# Altium footprint library PLS_Connector.PcbLib: 20 footprints (part 1 of 2)
Each footprint in its own frame and in the unit in brackets; x right, y up, seen from the top. Pads: shape width x height; smd on the part's side, far side on the other; paste and mask are expansions set on the pad; w line width, h text height; cw(c..) or ccw(c..) is an arc to the next point about the centre after c.
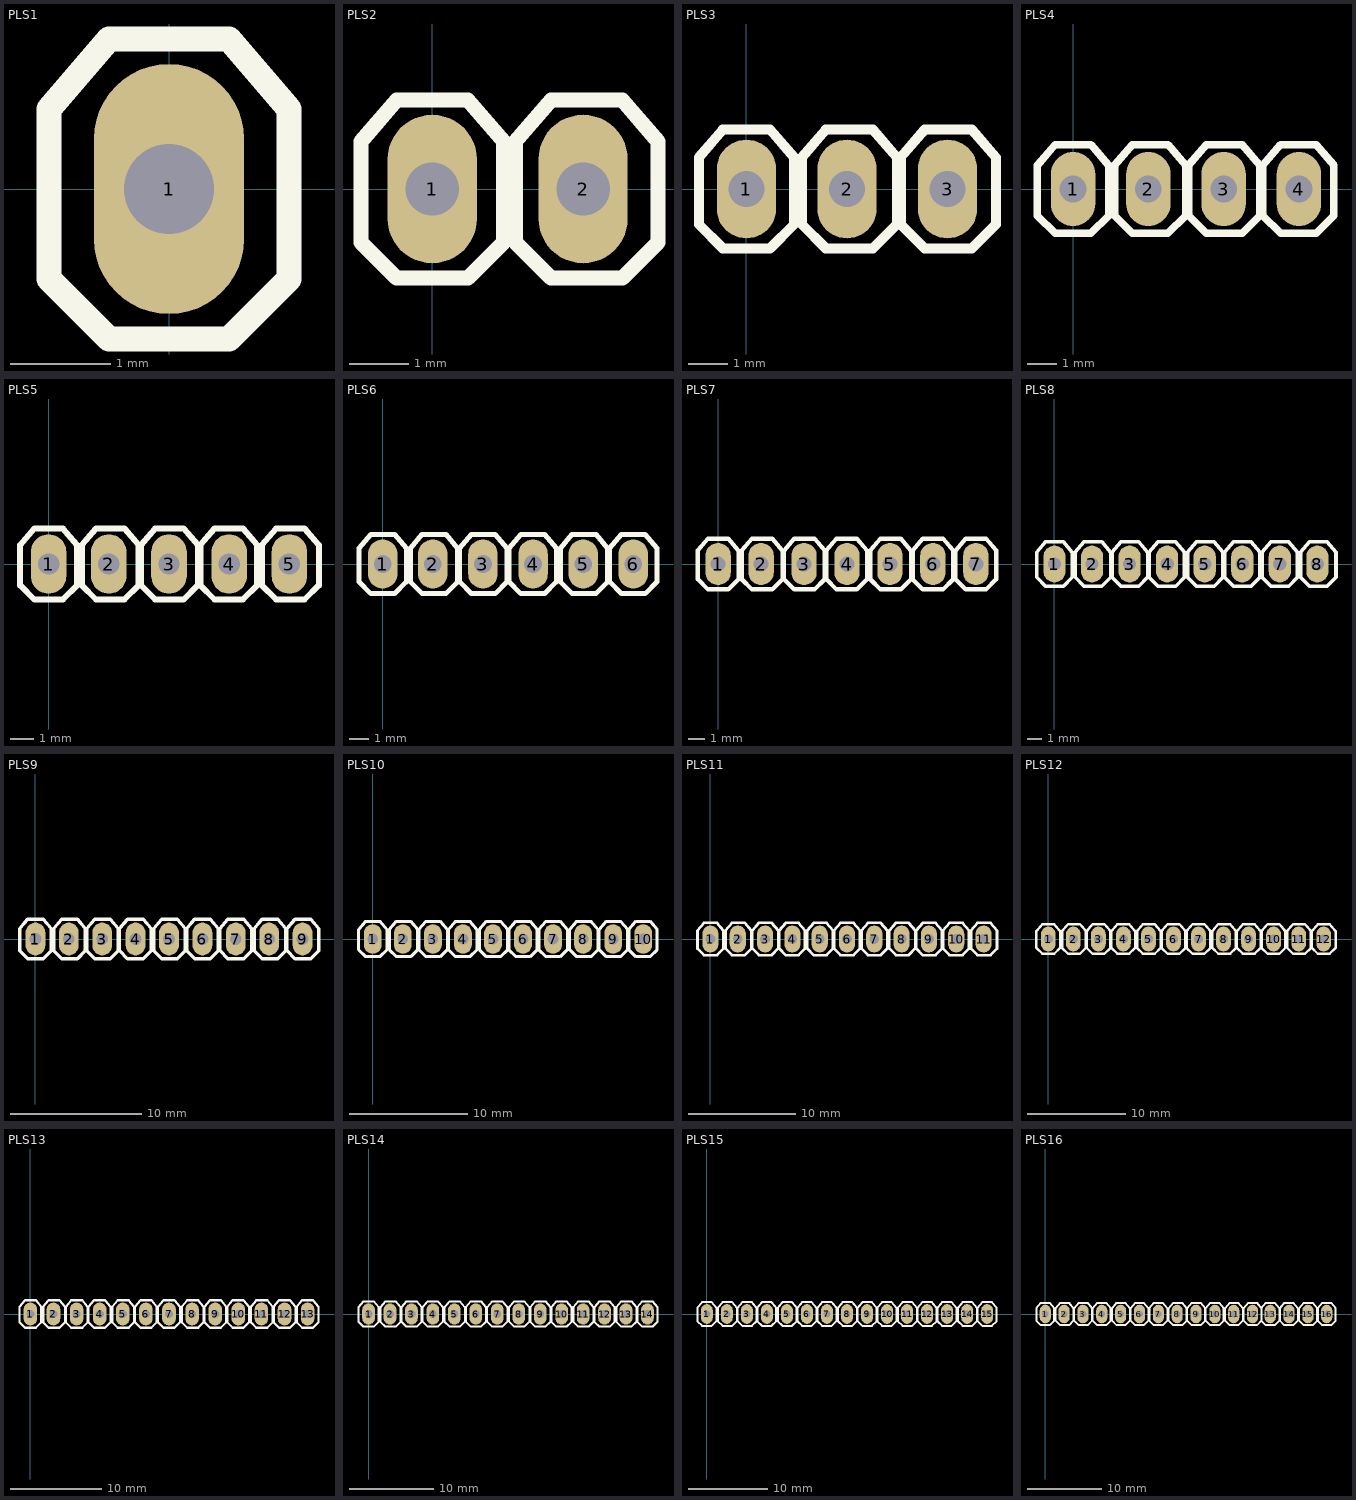
[diagram p0: the footprints below, top view; thin cyan lines are the x and y axes]

## PLS1 [mm]
pads (1):
  oval 1.5x2.5 hole 0.9: 1(0,0)
Top Overlay:
  lines w0.254: -1.2,-0.9 -1.2,0.8 -0.6,1.5 0.6,1.5 1.2,0.8 1.2,-0.9 0.6,-1.5 -0.6,-1.5 -1.2,-0.9
3D body: height 8.44, standoff -3, extent -1.27,-1.27 1.27,1.27

## PLS2 [mm]
pads (2):
  oval 1.5x2.5 hole 0.9: 1(0,0) 2(2.54,0)
Top Overlay:
  lines w0.254: -1.2,-0.9 -0.6,-1.5 0.6,-1.5 1.2,-0.9 1.2,0.8 0.6,1.5 -0.6,1.5 -1.2,0.8 -1.2,-0.9 ; 1.4,-0.9 1.4,0.8 2,1.5 3.2,1.5 3.8,0.8 3.8,-0.9 3.2,-1.5 2,-1.5 1.4,-0.9
3D body: height 8.44, standoff -3, extent -1.27,-1.27 3.81,1.27

## PLS3 [mm]
pads (3):
  oval 1.5x2.5 hole 0.9: 1(0,0) 2(2.54,0) 3(5.08,0)
Top Overlay:
  lines w0.254: -1.2,-0.9 -0.6,-1.5 0.6,-1.5 1.2,-0.9 1.2,0.8 0.6,1.5 -0.6,1.5 -1.2,0.8 -1.2,-0.9 ; 1.4,-0.9 1.4,0.8 2,1.5 3.2,1.5 3.8,0.8 3.8,-0.9 3.2,-1.5 2,-1.5 1.4,-0.9 ; 3.9,-0.9 3.9,0.8 4.5,1.5 5.7,1.5 6.3,0.8 6.3,-0.9 5.7,-1.5 4.5,-1.5 3.9,-0.9
3D body: height 8.44, standoff -3, extent -1.27,-1.27 6.35,1.27

## PLS4 [mm]
pads (4):
  oval 1.5x2.5 hole 0.9: 1(0,0) 2(2.54,0) 3(5.08,0) 4(7.62,0)
Top Overlay:
  lines w0.254: -1.2,-0.9 -1.2,0.8 -0.6,1.5 0.6,1.5 1.2,0.8 1.2,-0.9 0.6,-1.5 -0.6,-1.5 -1.2,-0.9 ; 1.4,-0.9 2,-1.5 3.2,-1.5 3.8,-0.9 3.8,0.8 3.2,1.5 2,1.5 1.4,0.8 1.4,-0.9 ; 3.9,-0.9 4.5,-1.5 5.7,-1.5 6.3,-0.9 6.3,0.8 5.7,1.5 4.5,1.5 3.9,0.8 3.9,-0.9 ; 6.4,-0.9 7,-1.5 8.2,-1.5 8.8,-0.9 8.8,0.8 8.2,1.5 7,1.5 6.4,0.8 6.4,-0.9
3D body: height 8.44, standoff -3, extent -1.26,-1.27 8.9,1.27

## PLS5 [mm]
pads (5):
  oval 1.5x2.5 hole 0.9: 1(0,0) 2(2.54,0) 3(5.08,0) 4(7.62,0) 5(10.16,0)
Top Overlay:
  lines w0.254: -1.2,-0.9 -1.2,0.8 -0.6,1.5 0.6,1.5 1.2,0.8 1.2,-0.9 0.6,-1.5 -0.6,-1.5 -1.2,-0.9 ; 1.4,-0.9 2,-1.5 3.2,-1.5 3.8,-0.9 3.8,0.8 3.2,1.5 2,1.5 1.4,0.8 1.4,-0.9 ; 3.9,-0.9 4.5,-1.5 5.7,-1.5 6.3,-0.9 6.3,0.8 5.7,1.5 4.5,1.5 3.9,0.8 3.9,-0.9 ; 6.4,-0.9 7,-1.5 8.2,-1.5 8.8,-0.9 8.8,0.8 8.2,1.5 7,1.5 6.4,0.8 6.4,-0.9 ; 9,-0.9 9.6,-1.5 10.8,-1.5 11.4,-0.9 11.4,0.8 10.8,1.5 9.6,1.5 9,0.8 9,-0.9
3D body: height 8.44, standoff -3, extent -1.275,-1.27 11.425,1.27

## PLS6 [mm]
pads (6):
  oval 1.5x2.5 hole 0.9: 1(0,0) 2(2.54,0) 3(5.08,0) 4(7.62,0) 5(10.16,0) 6(12.7,0)
Top Overlay:
  lines w0.254: -1.2,-0.9 -1.2,0.8 -0.6,1.5 0.6,1.5 1.2,0.8 1.2,-0.9 0.6,-1.5 -0.6,-1.5 -1.2,-0.9 ; 1.4,-0.9 2,-1.5 3.2,-1.5 3.8,-0.9 3.8,0.8 3.2,1.5 2,1.5 1.4,0.8 1.4,-0.9 ; 3.9,-0.9 4.5,-1.5 5.7,-1.5 6.3,-0.9 6.3,0.8 5.7,1.5 4.5,1.5 3.9,0.8 3.9,-0.9 ; 6.4,-0.9 7,-1.5 8.2,-1.5 8.8,-0.9 8.8,0.8 8.2,1.5 7,1.5 6.4,0.8 6.4,-0.9 ; 9,-0.9 9.6,-1.5 10.8,-1.5 11.4,-0.9 11.4,0.8 10.8,1.5 9.6,1.5 9,0.8 9,-0.9 ; 11.5,-0.9 12.1,-1.5 13.3,-1.5 13.9,-0.9 13.9,0.8 13.3,1.5 12.1,1.5 11.5,0.8 11.5,-0.9
3D body: height 8.44, standoff -3, extent -1.265,-1.27 13.975,1.27

## PLS7 [mm]
pads (7):
  oval 1.5x2.5 hole 0.9: 1(0,0) 2(2.54,0) 3(5.08,0) 4(7.62,0) 5(10.16,0) 6(12.7,0) 7(15.24,0)
Top Overlay:
  lines w0.254: -1.2,-0.9 -0.6,-1.5 0.6,-1.5 1.2,-0.9 1.2,0.8 0.6,1.5 -0.6,1.5 -1.2,0.8 -1.2,-0.9 ; 1.4,-0.9 1.4,0.8 2,1.5 3.2,1.5 3.8,0.8 3.8,-0.9 3.2,-1.5 2,-1.5 1.4,-0.9 ; 3.9,-0.9 3.9,0.8 4.5,1.5 5.7,1.5 6.3,0.8 6.3,-0.9 5.7,-1.5 4.5,-1.5 3.9,-0.9 ; 6.4,-0.9 6.4,0.8 7,1.5 8.2,1.5 8.8,0.8 8.8,-0.9 8.2,-1.5 7,-1.5 6.4,-0.9 ; 9,-0.9 9,0.8 9.6,1.5 10.8,1.5 11.4,0.8 11.4,-0.9 10.8,-1.5 9.6,-1.5 9,-0.9 ; 11.5,-0.9 11.5,0.8 12.1,1.5 13.3,1.5 13.9,0.8 13.9,-0.9 13.3,-1.5 12.1,-1.5 11.5,-0.9 ; 14.04,-0.9 14.04,0.8 14.64,1.5 15.84,1.5 16.44,0.8 16.44,-0.9 15.84,-1.5 14.64,-1.5 14.04,-0.9
3D body: height 8.44, standoff -3, extent -1.275,-1.27 16.505,1.27

## PLS8 [mm]
pads (8):
  oval 1.5x2.5 hole 0.9: 1(0,0) 2(2.54,0) 3(5.08,0) 4(7.62,0) 5(10.16,0) 6(12.7,0) 7(15.24,0) 8(17.78,0)
Top Overlay:
  lines w0.254: -1.2,-0.9 -0.6,-1.5 0.6,-1.5 1.2,-0.9 1.2,0.8 0.6,1.5 -0.6,1.5 -1.2,0.8 -1.2,-0.9 ; 1.4,-0.9 1.4,0.8 2,1.5 3.2,1.5 3.8,0.8 3.8,-0.9 3.2,-1.5 2,-1.5 1.4,-0.9 ; 3.9,-0.9 3.9,0.8 4.5,1.5 5.7,1.5 6.3,0.8 6.3,-0.9 5.7,-1.5 4.5,-1.5 3.9,-0.9 ; 6.4,-0.9 6.4,0.8 7,1.5 8.2,1.5 8.8,0.8 8.8,-0.9 8.2,-1.5 7,-1.5 6.4,-0.9 ; 9,-0.9 9,0.8 9.6,1.5 10.8,1.5 11.4,0.8 11.4,-0.9 10.8,-1.5 9.6,-1.5 9,-0.9 ; 11.5,-0.9 11.5,0.8 12.1,1.5 13.3,1.5 13.9,0.8 13.9,-0.9 13.3,-1.5 12.1,-1.5 11.5,-0.9 ; 14.04,-0.9 14.04,0.8 14.64,1.5 15.84,1.5 16.44,0.8 16.44,-0.9 15.84,-1.5 14.64,-1.5 14.04,-0.9 ; 16.64,-0.9 17.24,-1.5 18.44,-1.5 19.04,-0.9 19.04,0.8 18.44,1.5 17.24,1.5 16.64,0.8 16.64,-0.9
3D body: height 8.44, standoff -3, extent -1.25,-1.27 19.07,1.27

## PLS9 [mm]
pads (9):
  oval 1.5x2.5 hole 0.9: 1(0,0) 2(2.54,0) 3(5.08,0) 4(7.62,0) 5(10.16,0) 6(12.7,0) 7(15.24,0) 8(17.78,0) 9(20.32,0)
Top Overlay:
  lines w0.254: -1.2,-0.9 -0.6,-1.5 0.6,-1.5 1.2,-0.9 1.2,0.8 0.6,1.5 -0.6,1.5 -1.2,0.8 -1.2,-0.9 ; 1.4,-0.9 1.4,0.8 2,1.5 3.2,1.5 3.8,0.8 3.8,-0.9 3.2,-1.5 2,-1.5 1.4,-0.9 ; 3.9,-0.9 3.9,0.8 4.5,1.5 5.7,1.5 6.3,0.8 6.3,-0.9 5.7,-1.5 4.5,-1.5 3.9,-0.9 ; 6.4,-0.9 6.4,0.8 7,1.5 8.2,1.5 8.8,0.8 8.8,-0.9 8.2,-1.5 7,-1.5 6.4,-0.9 ; 9,-0.9 9,0.8 9.6,1.5 10.8,1.5 11.4,0.8 11.4,-0.9 10.8,-1.5 9.6,-1.5 9,-0.9 ; 11.5,-0.9 11.5,0.8 12.1,1.5 13.3,1.5 13.9,0.8 13.9,-0.9 13.3,-1.5 12.1,-1.5 11.5,-0.9 ; 14.04,-0.9 14.04,0.8 14.64,1.5 15.84,1.5 16.44,0.8 16.44,-0.9 15.84,-1.5 14.64,-1.5 14.04,-0.9 ; 16.64,-0.9 17.24,-1.5 18.44,-1.5 19.04,-0.9 19.04,0.8 18.44,1.5 17.24,1.5 16.64,0.8 16.64,-0.9 ; 19.14,-0.9 19.74,-1.5 20.94,-1.5 21.54,-0.9 21.54,0.8 20.94,1.5 19.74,1.5 19.14,0.8 19.14,-0.9
3D body: height 8.44, standoff -3, extent -1.225,-1.27 21.635,1.27

## PLS10 [mm]
pads (10):
  oval 1.5x2.5 hole 0.9: 1(0,0) 2(2.54,0) 3(5.08,0) 4(7.62,0) 5(10.16,0) 6(12.7,0) 7(15.24,0) 8(17.78,0) 9(20.32,0) 10(22.86,0)
Top Overlay:
  lines w0.254: -1.2,-0.9 -0.6,-1.5 0.6,-1.5 1.2,-0.9 1.2,0.8 0.6,1.5 -0.6,1.5 -1.2,0.8 -1.2,-0.9 ; 1.4,-0.9 1.4,0.8 2,1.5 3.2,1.5 3.8,0.8 3.8,-0.9 3.2,-1.5 2,-1.5 1.4,-0.9 ; 3.9,-0.9 3.9,0.8 4.5,1.5 5.7,1.5 6.3,0.8 6.3,-0.9 5.7,-1.5 4.5,-1.5 3.9,-0.9 ; 6.4,-0.9 6.4,0.8 7,1.5 8.2,1.5 8.8,0.8 8.8,-0.9 8.2,-1.5 7,-1.5 6.4,-0.9 ; 9,-0.9 9,0.8 9.6,1.5 10.8,1.5 11.4,0.8 11.4,-0.9 10.8,-1.5 9.6,-1.5 9,-0.9 ; 11.5,-0.9 11.5,0.8 12.1,1.5 13.3,1.5 13.9,0.8 13.9,-0.9 13.3,-1.5 12.1,-1.5 11.5,-0.9 ; 14.04,-0.9 14.04,0.8 14.64,1.5 15.84,1.5 16.44,0.8 16.44,-0.9 15.84,-1.5 14.64,-1.5 14.04,-0.9 ; 16.64,-0.9 17.24,-1.5 18.44,-1.5 19.04,-0.9 19.04,0.8 18.44,1.5 17.24,1.5 16.64,0.8 16.64,-0.9 ; 19.14,-0.9 19.74,-1.5 20.94,-1.5 21.54,-0.9 21.54,0.8 20.94,1.5 19.74,1.5 19.14,0.8 19.14,-0.9 ; 21.64,-0.9 22.24,-1.5 23.44,-1.5 24.04,-0.9 24.04,0.8 23.44,1.5 22.24,1.5 21.64,0.8 21.64,-0.9
3D body: height 8.44, standoff -3, extent -1.275,-1.245 24.125,1.295

## PLS11 [mm]
pads (11):
  oval 1.5x2.5 hole 0.9: 1(0,0) 2(2.54,0) 3(5.08,0) 4(7.62,0) 5(10.16,0) 6(12.7,0) 7(15.24,0) 8(17.78,0) 9(20.32,0) 10(22.86,0) 11(25.4,0)
Top Overlay:
  lines w0.254: -1.2,-0.9 -1.2,0.8 -0.6,1.5 0.6,1.5 1.2,0.8 1.2,-0.9 0.6,-1.5 -0.6,-1.5 -1.2,-0.9 ; 1.4,-0.9 2,-1.5 3.2,-1.5 3.8,-0.9 3.8,0.8 3.2,1.5 2,1.5 1.4,0.8 1.4,-0.9 ; 3.9,-0.9 4.5,-1.5 5.7,-1.5 6.3,-0.9 6.3,0.8 5.7,1.5 4.5,1.5 3.9,0.8 3.9,-0.9 ; 6.4,-0.9 7,-1.5 8.2,-1.5 8.8,-0.9 8.8,0.8 8.2,1.5 7,1.5 6.4,0.8 6.4,-0.9 ; 9,-0.9 9.6,-1.5 10.8,-1.5 11.4,-0.9 11.4,0.8 10.8,1.5 9.6,1.5 9,0.8 9,-0.9 ; 11.5,-0.9 12.1,-1.5 13.3,-1.5 13.9,-0.9 13.9,0.8 13.3,1.5 12.1,1.5 11.5,0.8 11.5,-0.9 ; 14.04,-0.9 14.64,-1.5 15.84,-1.5 16.44,-0.9 16.44,0.8 15.84,1.5 14.64,1.5 14.04,0.8 14.04,-0.9 ; 16.64,-0.9 16.64,0.8 17.24,1.5 18.44,1.5 19.04,0.8 19.04,-0.9 18.44,-1.5 17.24,-1.5 16.64,-0.9 ; 19.14,-0.9 19.14,0.8 19.74,1.5 20.94,1.5 21.54,0.8 21.54,-0.9 20.94,-1.5 19.74,-1.5 19.14,-0.9 ; 21.64,-0.9 21.64,0.8 22.24,1.5 23.44,1.5 24.04,0.8 24.04,-0.9 23.44,-1.5 22.24,-1.5 21.64,-0.9 ; 24.24,-0.9 24.24,0.8 24.84,1.5 26.04,1.5 26.64,0.8 26.64,-0.9 26.04,-1.5 24.84,-1.5 24.24,-0.9
3D body: height 8.44, standoff -3, extent -1.25,-1.27 26.69,1.27

## PLS12 [mm]
pads (12):
  oval 1.5x2.5 hole 0.9: 1(0,0) 2(2.54,0) 3(5.08,0) 4(7.62,0) 5(10.16,0) 6(12.7,0) 7(15.24,0) 8(17.78,0) 9(20.32,0) 10(22.86,0) 11(25.4,0) 12(27.94,0)
Top Overlay:
  lines w0.254: -1.2,-0.9 -0.6,-1.5 0.6,-1.5 1.2,-0.9 1.2,0.8 0.6,1.5 -0.6,1.5 -1.2,0.8 -1.2,-0.9 ; 1.4,-0.9 1.4,0.8 2,1.5 3.2,1.5 3.8,0.8 3.8,-0.9 3.2,-1.5 2,-1.5 1.4,-0.9 ; 3.9,-0.9 3.9,0.8 4.5,1.5 5.7,1.5 6.3,0.8 6.3,-0.9 5.7,-1.5 4.5,-1.5 3.9,-0.9 ; 6.4,-0.9 6.4,0.8 7,1.5 8.2,1.5 8.8,0.8 8.8,-0.9 8.2,-1.5 7,-1.5 6.4,-0.9 ; 9,-0.9 9,0.8 9.6,1.5 10.8,1.5 11.4,0.8 11.4,-0.9 10.8,-1.5 9.6,-1.5 9,-0.9 ; 11.5,-0.9 11.5,0.8 12.1,1.5 13.3,1.5 13.9,0.8 13.9,-0.9 13.3,-1.5 12.1,-1.5 11.5,-0.9 ; 14.04,-0.9 14.04,0.8 14.64,1.5 15.84,1.5 16.44,0.8 16.44,-0.9 15.84,-1.5 14.64,-1.5 14.04,-0.9 ; 16.64,-0.9 17.24,-1.5 18.44,-1.5 19.04,-0.9 19.04,0.8 18.44,1.5 17.24,1.5 16.64,0.8 16.64,-0.9 ; 19.14,-0.9 19.74,-1.5 20.94,-1.5 21.54,-0.9 21.54,0.8 20.94,1.5 19.74,1.5 19.14,0.8 19.14,-0.9 ; 21.64,-0.9 22.24,-1.5 23.44,-1.5 24.04,-0.9 24.04,0.8 23.44,1.5 22.24,1.5 21.64,0.8 21.64,-0.9 ; 24.24,-0.9 24.84,-1.5 26.04,-1.5 26.64,-0.9 26.64,0.8 26.04,1.5 24.84,1.5 24.24,0.8 24.24,-0.9 ; 26.74,-0.9 27.34,-1.5 28.54,-1.5 29.14,-0.9 29.14,0.8 28.54,1.5 27.34,1.5 26.74,0.8 26.74,-0.9
3D body: height 8.44, standoff -3, extent -1.25,-1.27 29.23,1.27

## PLS13 [mm]
pads (13):
  oval 1.5x2.5 hole 0.9: 1(0,0) 2(2.54,0) 3(5.08,0) 4(7.62,0) 5(10.16,0) 6(12.7,0) 7(15.24,0) 8(17.78,0) 9(20.32,0) 10(22.86,0) 11(25.4,0) 12(27.94,0) 13(30.48,0)
Top Overlay:
  lines w0.254: 29.18,-0.9 29.18,0.8 ; -1.2,-0.9 -0.6,-1.5 0.6,-1.5 1.2,-0.9 1.2,0.8 0.6,1.5 -0.6,1.5 -1.2,0.8 -1.2,-0.9 ; 1.4,-0.9 1.4,0.8 2,1.5 3.2,1.5 3.8,0.8 3.8,-0.9 3.2,-1.5 2,-1.5 1.4,-0.9 ; 3.9,-0.9 3.9,0.8 4.5,1.5 5.7,1.5 6.3,0.8 6.3,-0.9 5.7,-1.5 4.5,-1.5 3.9,-0.9 ; 6.4,-0.9 6.4,0.8 7,1.5 8.2,1.5 8.8,0.8 8.8,-0.9 8.2,-1.5 7,-1.5 6.4,-0.9 ; 9,-0.9 9,0.8 9.6,1.5 10.8,1.5 11.4,0.8 11.4,-0.9 10.8,-1.5 9.6,-1.5 9,-0.9 ; 11.5,-0.9 11.5,0.8 12.1,1.5 13.3,1.5 13.9,0.8 13.9,-0.9 13.3,-1.5 12.1,-1.5 11.5,-0.9 ; 14.04,-0.9 14.04,0.8 14.64,1.5 15.84,1.5 16.44,0.8 16.44,-0.9 15.84,-1.5 14.64,-1.5 14.04,-0.9 ; 16.64,-0.9 17.24,-1.5 18.44,-1.5 19.04,-0.9 19.04,0.8 18.44,1.5 17.24,1.5 16.64,0.8 16.64,-0.9 ; 19.14,-0.9 19.74,-1.5 20.94,-1.5 21.54,-0.9 21.54,0.8 20.94,1.5 19.74,1.5 19.14,0.8 19.14,-0.9 ; 21.64,-0.9 22.24,-1.5 23.44,-1.5 24.04,-0.9 24.04,0.8 23.44,1.5 22.24,1.5 21.64,0.8 21.64,-0.9 ; 24.24,-0.9 24.84,-1.5 26.04,-1.5 26.64,-0.9 26.64,0.8 26.04,1.5 24.84,1.5 24.24,0.8 24.24,-0.9 ; 26.74,-0.9 27.34,-1.5 28.54,-1.5 29.14,-0.9 29.14,0.8 28.54,1.5 27.34,1.5 26.74,0.8 26.74,-0.9 ; 29.28,-0.9 29.28,0.8 29.88,1.5 31.08,1.5 31.68,0.8 31.68,-0.9 31.08,-1.5 29.88,-1.5 29.28,-0.9
3D body: height 8.44, standoff -3, extent -1.275,-1.27 31.745,1.27

## PLS14 [mm]
pads (14):
  oval 1.5x2.5 hole 0.9: 1(0,0) 2(2.54,0) 3(5.08,0) 4(7.62,0) 5(10.16,0) 6(12.7,0) 7(15.24,0) 8(17.78,0) 9(20.32,0) 10(22.86,0) 11(25.4,0) 12(27.94,0) 13(30.48,0) 14(33.02,0)
Top Overlay:
  lines w0.254: 29.12,-0.9 29.12,0.8 ; -1.2,-0.9 -0.6,-1.5 0.6,-1.5 1.2,-0.9 1.2,0.8 0.6,1.5 -0.6,1.5 -1.2,0.8 -1.2,-0.9 ; 1.4,-0.9 1.4,0.8 2,1.5 3.2,1.5 3.8,0.8 3.8,-0.9 3.2,-1.5 2,-1.5 1.4,-0.9 ; 3.9,-0.9 3.9,0.8 4.5,1.5 5.7,1.5 6.3,0.8 6.3,-0.9 5.7,-1.5 4.5,-1.5 3.9,-0.9 ; 6.4,-0.9 6.4,0.8 7,1.5 8.2,1.5 8.8,0.8 8.8,-0.9 8.2,-1.5 7,-1.5 6.4,-0.9 ; 9,-0.9 9,0.8 9.6,1.5 10.8,1.5 11.4,0.8 11.4,-0.9 10.8,-1.5 9.6,-1.5 9,-0.9 ; 11.5,-0.9 11.5,0.8 12.1,1.5 13.3,1.5 13.9,0.8 13.9,-0.9 13.3,-1.5 12.1,-1.5 11.5,-0.9 ; 14.04,-0.9 14.04,0.8 14.64,1.5 15.84,1.5 16.44,0.8 16.44,-0.9 15.84,-1.5 14.64,-1.5 14.04,-0.9 ; 16.64,-0.9 17.24,-1.5 18.44,-1.5 19.04,-0.9 19.04,0.8 18.44,1.5 17.24,1.5 16.64,0.8 16.64,-0.9 ; 19.14,-0.9 19.74,-1.5 20.94,-1.5 21.54,-0.9 21.54,0.8 20.94,1.5 19.74,1.5 19.14,0.8 19.14,-0.9 ; 21.64,-0.9 22.24,-1.5 23.44,-1.5 24.04,-0.9 24.04,0.8 23.44,1.5 22.24,1.5 21.64,0.8 21.64,-0.9 ; 24.24,-0.9 24.84,-1.5 26.04,-1.5 26.64,-0.9 26.64,0.8 26.04,1.5 24.84,1.5 24.24,0.8 24.24,-0.9 ; 26.74,-0.9 27.34,-1.5 28.54,-1.5 29.14,-0.9 29.14,0.8 28.54,1.5 27.34,1.5 26.74,0.8 26.74,-0.9 ; 29.32,-0.9 29.32,0.8 29.92,1.5 31.12,1.5 31.72,0.8 31.72,-0.9 31.12,-1.5 29.92,-1.5 29.32,-0.9 ; 31.82,-0.9 31.82,0.8 32.42,1.5 33.62,1.5 34.22,0.8 34.22,-0.9 33.62,-1.5 32.42,-1.5 31.82,-0.9
3D body: height 8.44, standoff -3, extent -1.275,-1.27 34.285,1.27

## PLS15 [mm]
pads (15):
  oval 1.5x2.5 hole 0.9: 1(0,0) 2(2.54,0) 3(5.08,0) 4(7.62,0) 5(10.16,0) 6(12.7,0) 7(15.24,0) 8(17.78,0) 9(20.32,0) 10(22.86,0) 11(25.4,0) 12(27.94,0) 13(30.48,0) 14(33.02,0) 15(35.56,0)
Top Overlay:
  lines w0.254: 29.16,-0.9 29.16,0.8 ; -1.2,-0.9 -0.6,-1.5 0.6,-1.5 1.2,-0.9 1.2,0.8 0.6,1.5 -0.6,1.5 -1.2,0.8 -1.2,-0.9 ; 1.4,-0.9 1.4,0.8 2,1.5 3.2,1.5 3.8,0.8 3.8,-0.9 3.2,-1.5 2,-1.5 1.4,-0.9 ; 3.9,-0.9 3.9,0.8 4.5,1.5 5.7,1.5 6.3,0.8 6.3,-0.9 5.7,-1.5 4.5,-1.5 3.9,-0.9 ; 6.4,-0.9 6.4,0.8 7,1.5 8.2,1.5 8.8,0.8 8.8,-0.9 8.2,-1.5 7,-1.5 6.4,-0.9 ; 9,-0.9 9,0.8 9.6,1.5 10.8,1.5 11.4,0.8 11.4,-0.9 10.8,-1.5 9.6,-1.5 9,-0.9 ; 11.5,-0.9 11.5,0.8 12.1,1.5 13.3,1.5 13.9,0.8 13.9,-0.9 13.3,-1.5 12.1,-1.5 11.5,-0.9 ; 14.04,-0.9 14.04,0.8 14.64,1.5 15.84,1.5 16.44,0.8 16.44,-0.9 15.84,-1.5 14.64,-1.5 14.04,-0.9 ; 16.64,-0.9 17.24,-1.5 18.44,-1.5 19.04,-0.9 19.04,0.8 18.44,1.5 17.24,1.5 16.64,0.8 16.64,-0.9 ; 19.14,-0.9 19.74,-1.5 20.94,-1.5 21.54,-0.9 21.54,0.8 20.94,1.5 19.74,1.5 19.14,0.8 19.14,-0.9 ; 21.64,-0.9 22.24,-1.5 23.44,-1.5 24.04,-0.9 24.04,0.8 23.44,1.5 22.24,1.5 21.64,0.8 21.64,-0.9 ; 24.24,-0.9 24.84,-1.5 26.04,-1.5 26.64,-0.9 26.64,0.8 26.04,1.5 24.84,1.5 24.24,0.8 24.24,-0.9 ; 26.74,-0.9 27.34,-1.5 28.54,-1.5 29.14,-0.9 29.14,0.8 28.54,1.5 27.34,1.5 26.74,0.8 26.74,-0.9 ; 29.26,-0.9 29.26,0.8 29.86,1.5 31.06,1.5 31.66,0.8 31.66,-0.9 31.06,-1.5 29.86,-1.5 29.26,-0.9 ; 31.86,-0.9 31.86,0.8 32.46,1.5 33.66,1.5 34.26,0.8 34.26,-0.9 33.66,-1.5 32.46,-1.5 31.86,-0.9 ; 34.36,-0.9 34.36,0.8 34.96,1.5 36.16,1.5 36.76,0.8 36.76,-0.9 36.16,-1.5 34.96,-1.5 34.36,-0.9
3D body: height 8.44, standoff -3, extent -1.25,-1.295 36.85,1.245

## PLS16 [mm]
pads (16):
  oval 1.5x2.5 hole 0.9: 1(0,0) 2(2.54,0) 3(5.08,0) 4(7.62,0) 5(10.16,0) 6(12.7,0) 7(15.24,0) 8(17.78,0) 9(20.32,0) 10(22.86,0) 11(25.4,0) 12(27.94,0) 13(30.32,0) 14(32.86,0) 15(35.4,0) 16(37.94,0)
Top Overlay:
  lines w0.254: 29.14,-0.9 29.14,0.8 ; 29.14,-0.9 28.54,-1.5 27.34,-1.5 26.74,-0.9 26.74,0.8 27.34,1.5 28.54,1.5 29.14,0.8 ; 29.14,-0.9 29.14,0.8 ; 29.14,-0.9 29.74,-1.5 30.94,-1.5 31.54,-0.9 31.54,0.8 30.94,1.5 29.74,1.5 29.14,0.8 ; -1.2,-0.9 -0.6,-1.5 0.6,-1.5 1.2,-0.9 1.2,0.8 0.6,1.5 -0.6,1.5 -1.2,0.8 -1.2,-0.9 ; 1.4,-0.9 1.4,0.8 2,1.5 3.2,1.5 3.8,0.8 3.8,-0.9 3.2,-1.5 2,-1.5 1.4,-0.9 ; 3.9,-0.9 3.9,0.8 4.5,1.5 5.7,1.5 6.3,0.8 6.3,-0.9 5.7,-1.5 4.5,-1.5 3.9,-0.9 ; 6.4,-0.9 6.4,0.8 7,1.5 8.2,1.5 8.8,0.8 8.8,-0.9 8.2,-1.5 7,-1.5 6.4,-0.9 ; 9,-0.9 9,0.8 9.6,1.5 10.8,1.5 11.4,0.8 11.4,-0.9 10.8,-1.5 9.6,-1.5 9,-0.9 ; 11.5,-0.9 11.5,0.8 12.1,1.5 13.3,1.5 13.9,0.8 13.9,-0.9 13.3,-1.5 12.1,-1.5 11.5,-0.9 ; 14.04,-0.9 14.04,0.8 14.64,1.5 15.84,1.5 16.44,0.8 16.44,-0.9 15.84,-1.5 14.64,-1.5 14.04,-0.9 ; 16.64,-0.9 17.24,-1.5 18.44,-1.5 19.04,-0.9 19.04,0.8 18.44,1.5 17.24,1.5 16.64,0.8 16.64,-0.9 ; 19.14,-0.9 19.74,-1.5 20.94,-1.5 21.54,-0.9 21.54,0.8 20.94,1.5 19.74,1.5 19.14,0.8 19.14,-0.9 ; 21.64,-0.9 22.24,-1.5 23.44,-1.5 24.04,-0.9 24.04,0.8 23.44,1.5 22.24,1.5 21.64,0.8 21.64,-0.9 ; 24.24,-0.9 24.84,-1.5 26.04,-1.5 26.64,-0.9 26.64,0.8 26.04,1.5 24.84,1.5 24.24,0.8 24.24,-0.9 ; 31.64,-0.9 31.64,0.8 32.24,1.5 33.44,1.5 34.04,0.8 34.04,-0.9 33.44,-1.5 32.24,-1.5 31.64,-0.9 ; 34.24,-0.9 34.24,0.8 34.84,1.5 36.04,1.5 36.64,0.8 36.64,-0.9 36.04,-1.5 34.84,-1.5 34.24,-0.9 ; 36.74,-0.9 36.74,0.8 37.34,1.5 38.54,1.5 39.14,0.8 39.14,-0.9 38.54,-1.5 37.34,-1.5 36.74,-0.9
3D body: height 8.44, standoff -3, extent -1.25,-1.27 39.39,1.27